# Altium schematic symbol library SN74LVC244A_PW_20.SchLib: 2 symbols
Pins are listed as number, name and electrical type; pins without a type are passive.

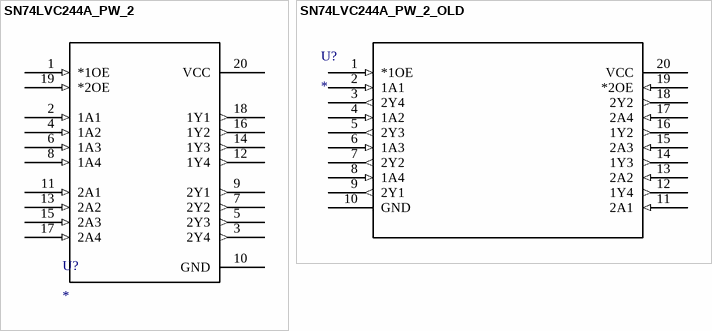
[diagram p0: symbols SN74LVC244A_PW_2 to SN74LVC244A_PW_2_OLD]

## SN74LVC244A_PW_2
designator U?
Imported; Manufacturer: Texas Instruments; GENERIC_PART_NUMBER: SN74LVC244A; INDUSTRY_STD_PKG_TYPE: TSSOP; FAMILY_NAME: NON-INVERTING BUFFER/DRIVER; PIN_COUNT: 20; PACKAGE_DESIGNATOR: PW; Datasheet URL: http://www.ti.com/lit/gpn/SN74LVC244A; RefDes: RefDes; Type: DEV; Value: Value
footprint PW20
pins: 1 *1OE (in), 2 1A1 (in), 3 2Y4 (out), 4 1A2 (in), 5 2Y3 (out), 6 1A3 (in), 7 2Y2 (out), 8 1A4 (in), 9 2Y1 (out), 10 GND (power), 11 2A1 (in), 12 1Y4 (out), 13 2A2 (in), 14 1Y3 (out), 15 2A3 (in), 16 1Y2 (out), 17 2A4 (in), 18 1Y1 (out), 19 *2OE (in), 20 VCC (power)

## SN74LVC244A_PW_2_OLD
designator U?
Imported; Manufacturer: Texas Instruments; GENERIC_PART_NUMBER: SN74LVC244A; INDUSTRY_STD_PKG_TYPE: TSSOP; FAMILY_NAME: NON-INVERTING BUFFER/DRIVER; PIN_COUNT: 20; PACKAGE_DESIGNATOR: PW; Datasheet URL: http://www.ti.com/lit/gpn/SN74LVC244A; RefDes: RefDes; Type: DEV; Value: Value
footprint PW20
pins: 1 *1OE (in), 2 1A1 (in), 3 2Y4 (out), 4 1A2 (in), 5 2Y3 (out), 6 1A3 (in), 7 2Y2 (out), 8 1A4 (in), 9 2Y1 (out), 10 GND (power), 11 2A1 (in), 12 1Y4 (out), 13 2A2 (in), 14 1Y3 (out), 15 2A3 (in), 16 1Y2 (out), 17 2A4 (in), 18 2Y2 (out), 19 *2OE (in), 20 VCC (power)